# Altium integrated library 2017_elec主板.IntLib: 36 symbols
Pins are listed as number, name and electrical type; pins without a type are passive.

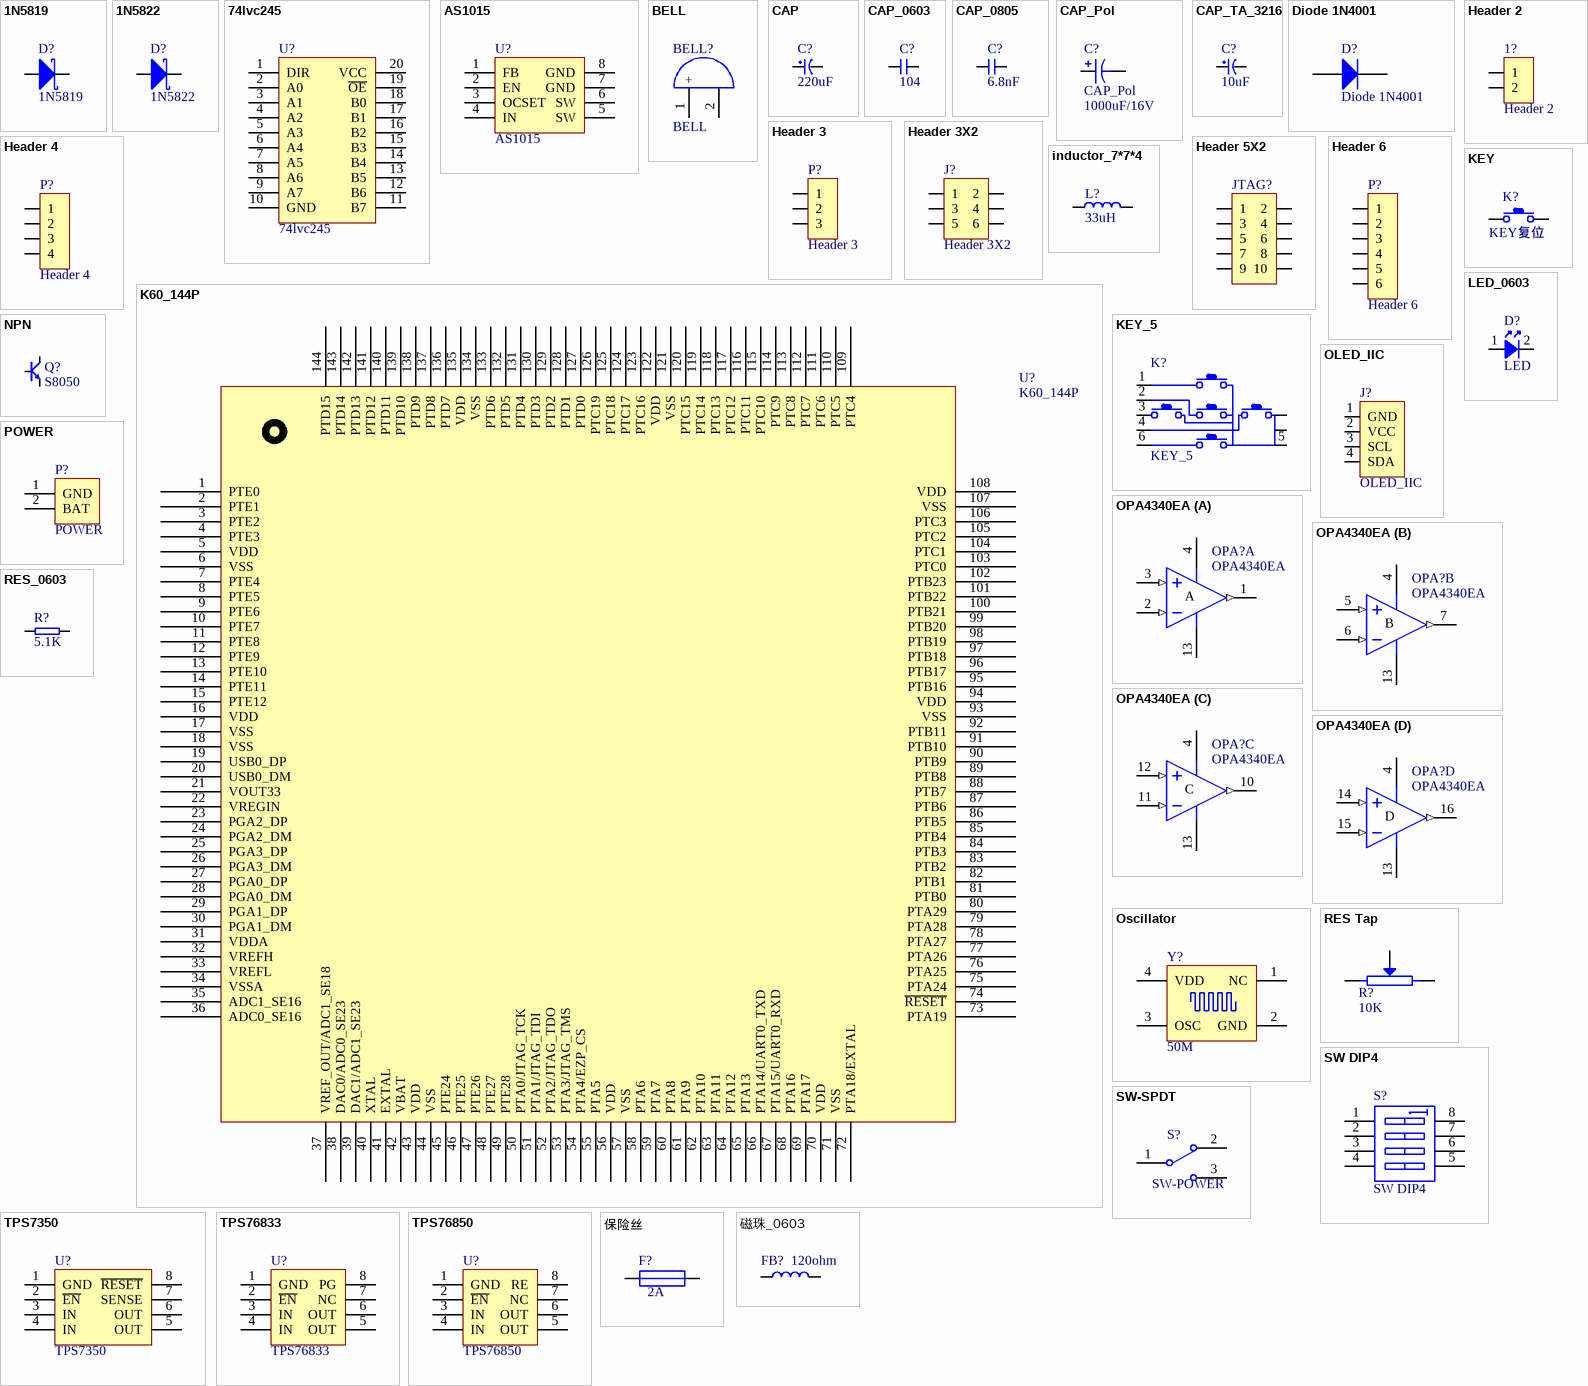
[diagram p0: symbols 1N5819 to 磁珠_0603]

## 1N5819
designator D?
footprint DO-214AC(SMA)-SBD
pins: 1 A, 2 K

## 1N5822
designator D?
footprint DO-214AC(SMA)-SBD
pins: 1 A, 2 K

## 74lvc245
designator U?
footprint 74lvc245 TSSOP20
pins: 1 DIR, 2 A0, 3 A1, 4 A2, 5 A3, 6 A4, 7 A5, 8 A6, 9 A7, 10 GND, 11 B7, 12 B6, 13 B5, 14 B4, 15 B3, 16 B2, 17 B1, 18 B0, 19 ~{OE}, 20 VCC

## AS1015
designator U?
footprint SOP-8
pins: 1 FB, 2 EN, 3 OCSET, 4 IN, 5 SW, 6 SW, 7 GND, 8 GND

## BELL
designator BELL?
footprint BUZZER
pins: 1 +, 2

## CAP
designator C?, comment 220uF
footprint SMD-EC-F6.3
pins: 1, 2

## CAP_0603
designator C?, comment 104
footprint 0603-CAP
pins: 1, 2

## CAP_0805
designator C?, comment 6.8nF
footprint 0805
pins: 1, 2

## CAP_Pol
designator C?
footprint CAPP
pins: 1, 2
text: 1000uF/16V

## CAP_TA_3216
designator C?, comment 10uF
footprint 3216-CAP-TA
pins: 1, 2

## Diode 1N4001
designator D?
footprint 贴片二极管
pins: 1 A, 2 K

## Header 2
designator 1?
footprint Header 2
pins: 1, 2

## Header 3
designator P?
footprint Header 3
pins: 1, 2, 3

## Header 3X2
designator J?
footprint IDC3*2
pins: 1, 2, 3, 4, 5, 6

## Header 4
designator P?
footprint Header 4
pins: 1, 2, 3, 4

## Header 5X2
designator JTAG?  (value not drawn)
footprint IDC5*2
pins: 1, 2, 3, 4, 5, 6, 7, 8, 9, 10

## Header 6
designator P?
footprint Header 6
pins: 1, 2, 3, 4, 5, 6

## inductor_7*7*4
designator L?, comment 33uH
footprint Inductor_7*7*4
pins: 1, 2

## K60_144P
designator U?
footprint K60-LQFP
pins: 1 PTE0, 2 PTE1, 3 PTE2, 4 PTE3, 5 VDD, 6 VSS, 7 PTE4, 8 PTE5, 9 PTE6, 10 PTE7, 11 PTE8, 12 PTE9, 13 PTE10, 14 PTE11, 15 PTE12, 16 VDD, 17 VSS, 18 VSS, 19 USB0_DP, 20 USB0_DM, 21 VOUT33, 22 VREGIN, 23 PGA2_DP, 24 PGA2_DM, 25 PGA3_DP, 26 PGA3_DM, 27 PGA0_DP, 28 PGA0_DM, 29 PGA1_DP, 30 PGA1_DM, 31 VDDA, 32 VREFH, 33 VREFL, 34 VSSA, 35 ADC1_SE16, 36 ADC0_SE16, 37 VREF_OUT/ADC1_SE18, 38 DAC0/ADC0_SE23, 39 DAC1/ADC1_SE23, 40 XTAL, 41 EXTAL, 42 VBAT, 43 VDD, 44 VSS, 45 PTE24, 46 PTE25, 47 PTE26, 48 PTE27, 49 PTE28, 50 PTA0/JTAG_TCK, 51 PTA1/JTAG_TDI, 52 PTA2/JTAG_TDO, 53 PTA3/JTAG_TMS, 54 PTA4/EZP_CS, 55 PTA5, 56 VDD, 57 VSS, 58 PTA6, 59 PTA7, 60 PTA8, 61 PTA9, 62 PTA10, 63 PTA11, 64 PTA12, 65 PTA13, 66 PTA14/UART0_TXD, 67 PTA15/UART0_RXD, 68 PTA16, 69 PTA17, 70 VDD, 71 VSS, 72 PTA18/EXTAL, 73 PTA19, 74 ~{RESET}, 75 PTA24, 76 PTA25, 77 PTA26, 78 PTA27, 79 PTA28, 80 PTA29, 81 PTB0, 82 PTB1, 83 PTB2, 84 PTB3, 85 PTB4, 86 PTB5, 87 PTB6, 88 PTB7, 89 PTB8, 90 PTB9, 91 PTB10, 92 PTB11, 93 VSS, 94 VDD, 95 PTB16, 96 PTB17, 97 PTB18, 98 PTB19, 99 PTB20, 100 PTB21, 101 PTB22, 102 PTB23, 103 PTC0, 104 PTC1, 105 PTC2, 106 PTC3, 107 VSS, 108 VDD, 109 PTC4, 110 PTC5, 111 PTC6, 112 PTC7, 113 PTC8, 114 PTC9, 115 PTC10, 116 PTC11, 117 PTC12, 118 PTC13, 119 PTC14, 120 PTC15, 121 VSS, 122 VDD, 123 PTC16, 124 PTC17, 125 PTC18, 126 PTC19, 127 PTD0, 128 PTD1, 129 PTD2, 130 PTD3, 131 PTD4, 132 PTD5, 133 PTD6, 134 VSS, 135 VDD, 136 PTD7, 137 PTD8, 138 PTD9, 139 PTD10, 140 PTD11, 141 PTD12, 142 PTD13, 143 PTD14, 144 PTD15

## KEY
designator K?, comment KEY复位
footprint KFC
pins: 1, 2

## KEY_5
designator K?
footprint KEY_5
pins: 1, 2 Center, 3, 4, 5 Common, 6, 7 GND, 8 GND

## LED_0603
designator D?, comment LED
footprint 0603-LED
pins: 1, 2

## NPN
designator Q?, comment S8050
footprint 8050
pins: 1, 2, 3

## OLED_IIC
designator J?
footprint OLED_IIC
pins: 1 GND, 2 VCC, 3 SCL, 4 SDA

## OPA4340EA
designator OPA?
footprint OPA4340 SSOP16 (SSOP, 16-Leads, Body 4.91x3.90mm, Pitch 0.64mm, IPC Medium Density)
part A pins: 1 OUT (out), 2 IN- (in), 3 IN+ (in), 4 V+ (power), 8 NC hidden, 9 NC hidden, 13 V- (power)
part B pins: 4 V+ (power), 5 IN+ (in), 6 IN- (in), 7 OUT (out), 13 V- (power)
part C pins: 4 V+ (power), 10 OUT (out), 11 IN- (in), 12 IN+ (in), 13 V- (power)
part D pins: 4 V+ (power), 13 V- (power), 14 IN+ (in), 15 IN- (in), 16 OUT (out)
part A text: A
part B text: B
part C text: C
part D text: D

## Oscillator
designator Y?, comment 50M
footprint XTAL-3225
pins: 1 NC, 2 GND, 3 OSC, 4 VDD

## POWER
designator P?
footprint POWER
pins: 1 GND, 2 BAT

## RES Tap
designator R?, comment 10K
footprint VR5
pins: 1, 2 W, 3

## RES_0603
designator R?, comment 5.1K
footprint 0603-RES
pins: 1, 2

## SW DIP4
designator S?
footprint SW DIP4
pins: 1 A1, 2 A2, 3 A3, 4 A4, 5 B4, 6 B3, 7 B2, 8 B1

## SW-SPDT
designator S?, comment SW-POWER
footprint SW
pins: 1, 2, 3

## TPS7350
designator U?
footprint SOP-8
pins: 1 GND, 2 ~{EN}, 3 IN, 4 IN, 5 OUT, 6 OUT, 7 SENSE, 8 ~{RESET}

## TPS76833
designator U?
footprint SOP-8
pins: 1 GND, 2 ~{EN}, 3 IN, 4 IN, 5 OUT, 6 OUT, 7 NC, 8 PG

## TPS76850
designator U?
footprint SOP-8
pins: 1 GND, 2 ~{EN}, 3 IN, 4 IN, 5 OUT, 6 OUT, 7 NC, 8 RE

## 保险丝
designator F?, comment 2A
footprint 0805
footprint 1206
pins: 1, 2

## 磁珠_0603
designator FB?, comment 120ohm
footprint 0603_FB
pins: 1, 2